# Altium schematic symbol library PJ-069B-SMT.SchLib: 1 symbol
Pins are listed as number, name and electrical type; pins without a type are passive.

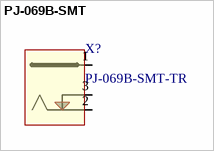
[diagram p0: symbol PJ-069B-SMT]

## PJ-069B-SMT
designator X?, comment PJ-069B-SMT-TR
PDF: http://www.cui.com/product/resource/digikeypdf/pj-069b-smt.pdf; PRICE: 2.44000; BUY_LINK: http://www.digikey.com/product-detail/en/PJ-069B-SMT-TR/CP-069BPJCT-ND/2625175; ID: PJ-069B-SMT-TR
footprint PJ-069B-SMT
pins: 1, 2, 3